# EAGLE library part HIF3FC-14PA-2.54DSA_71_ (library HIF3FC-14PA-2.54DSA_71_)
HIF3FC 2.54mm shrouded PCB header, 14P Hirose HIF3FC Series, 2.54mm Pitch 14 Way 2 Row Straight PCB Header, Solder Termination, 1A Source: Datasheet
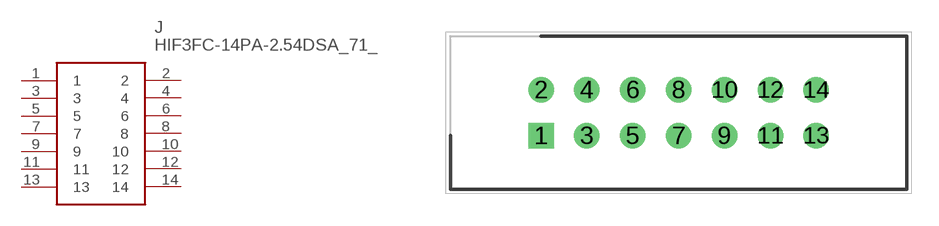
[diagram p0: symbol with the pads of HDRV14W50P254_2X7_2528X850X920; footprint HDRV14W50P254_2X7_2528X850X920]

Designator prefix J

## HIF3FC-14PA-2.54DSA_71_ (Description: HIF3FC 2.54mm shrouded PCB header, 14P Hirose HIF3FC Series, 2.54mm Pitch 14 Way 2 Row Straight PCB Header, Solder Termination, 1A; Height: 9.2mm; Manufacturer_Name: Hirose; Manufacturer_Part_Number: HIF3FC-14PA-2.54DSA(71); Mouser_Part_Number: 798-HIF3FC14PA254D71; Mouser_Price-Stock: https://www.mouser.co.uk/ProductDetail/Hirose-Connector/HIF3FC-14PA-254DSA71?qs=eDUdFcBPps0zLHH58Hn1Lw%3D%3D)  [HDRV14W50P254_2X7_2528X850X920]
1  1
2  2
3  3
4  4
5  5
6  6
7  7
8  8
9  9
10  10
11  11
12  12
13  13
14  14

## Footprint HDRV14W50P254_2X7_2528X850X920 (pad centres in mm)
HIF3FC-14PA-2.54DSA(71)
drill 0.9 pad 1.35 square: 1 0,0
drill 0.9 pad 1.35: 2 0,2.54; 3 2.54,0; 4 2.54,2.54; 5 5.08,0; 6 5.08,2.54; 7 7.62,0; 8 7.62,2.54; 9 10.16,0; 10 10.16,2.54; 11 12.7,0; 12 12.7,2.54; 13 15.24,0; 14 15.24,2.54